# Altium footprint library ESP32-S3-WROOM-2-N32R8V.PcbLib: 1 footprints
Each footprint in its own frame and in the unit in brackets; x right, y up, seen from the top. Pads: shape width x height; smd on the part's side, far side on the other; paste and mask are expansions set on the pad; w line width, h text height; cw(c..) or ccw(c..) is an arc to the next point about the centre after c.
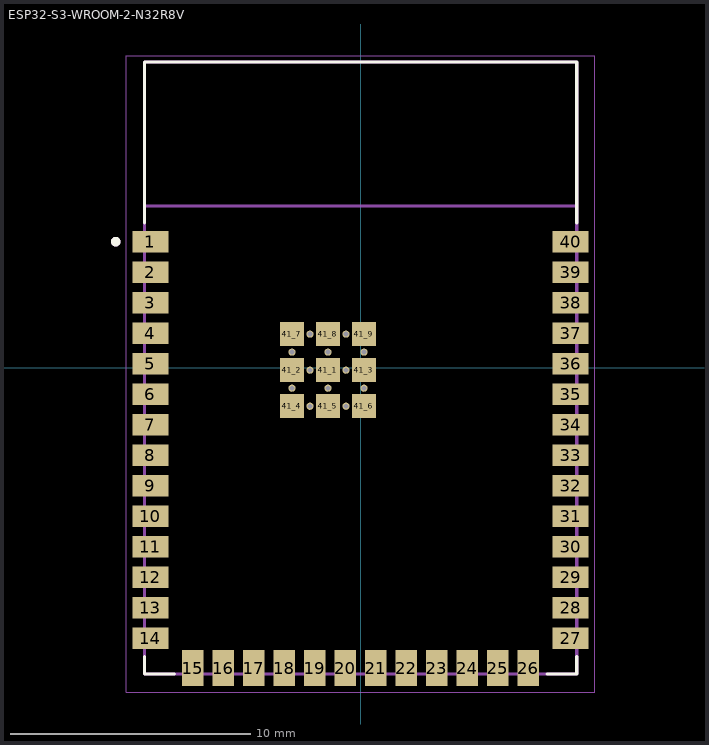
[diagram p0: the footprint, top view; thin cyan lines are the x and y axes]

## ESP32-S3-WROOM-2-N32R8V [mm]
pads (61):
  rect 1.5x0.9 smd: 1(-8.75,5.26) 2(-8.75,3.99) 3(-8.75,2.72) 4(-8.75,1.45) 5(-8.75,0.18) 6(-8.75,-1.09) 7(-8.75,-2.36) 8(-8.75,-3.63) 9(-8.75,-4.9) 10(-8.75,-6.17) 11(-8.75,-7.44) 12(-8.75,-8.71) 13(-8.75,-9.98) 14(-8.75,-11.25) 27(8.75,-11.25) 28(8.75,-9.98) 29(8.75,-8.71) 30(8.75,-7.44) 31(8.75,-6.17) 32(8.75,-4.9) 33(8.75,-3.63) 34(8.75,-2.36) 35(8.75,-1.09) 36(8.75,0.18) 37(8.75,1.45) 38(8.75,2.72) 39(8.75,3.99) 40(8.75,5.26)
  rect 0.9x1.5 smd: 15(-6.985,-12.5) 16(-5.715,-12.5) 17(-4.445,-12.5) 18(-3.175,-12.5) 19(-1.905,-12.5) 20(-0.635,-12.5) 21(0.635,-12.5) 22(1.905,-12.5) 23(3.175,-12.5) 24(4.445,-12.5) 25(5.715,-12.5) 26(6.985,-12.5)
  rect 1x1 smd: 41_1(-1.36,-0.09) 41_2(-2.86,-0.09) 41_3(0.14,-0.09) 41_4(-2.86,-1.59) 41_5(-1.36,-1.59) 41_6(0.14,-1.59) 41_7(-2.86,1.41) 41_8(-1.36,1.41) 41_9(0.14,1.41)
  round 0.3 hole 0.2 mask+0: 41_10(-1.36,0.66) 41_11(-2.86,0.66) 41_12(0.14,0.66) 41_13(-2.86,-0.84) 41_14(-1.36,-0.84) 41_15(0.14,-0.84) 41_16(-2.11,1.41) 41_17(-0.61,1.41) 41_18(-2.11,-0.09) 41_19(-0.61,-0.09) 41_20(-2.11,-1.59) 41_21(-0.61,-1.59)
Top Overlay:
  circle w0.2: c-10.2,5.26 r0.1
  lines w0.127: -9,-12.02 -9,-12.75 -7.755,-12.75 ; -9,6.03 -9,12.75 9,12.75 9,6.03 ; 7.755,-12.75 9,-12.75 9,-12.02
Mechanical 13:
  circle w0.2: c-10.2,5.26 r0.1
  lines w0.127: -9,6.75 9,6.75 ; -9,6.75 -9,12.75 9,12.75 9,6.75 ; -9,6.75 -9,-12.75 9,-12.75 9,6.75
Mechanical 15:
  lines w0.05: -9.75,-13.5 9.75,-13.5 9.75,13 -9.75,13 -9.75,-13.5
3D body "ESP32-S3-WROOM-2.step": height 3.11, standoff -0.05, extent -9.01,-12.76 9.01,12.75